# Altium integrated library NSC Switcher.IntLib: 2027 symbols (part 49 of 54)
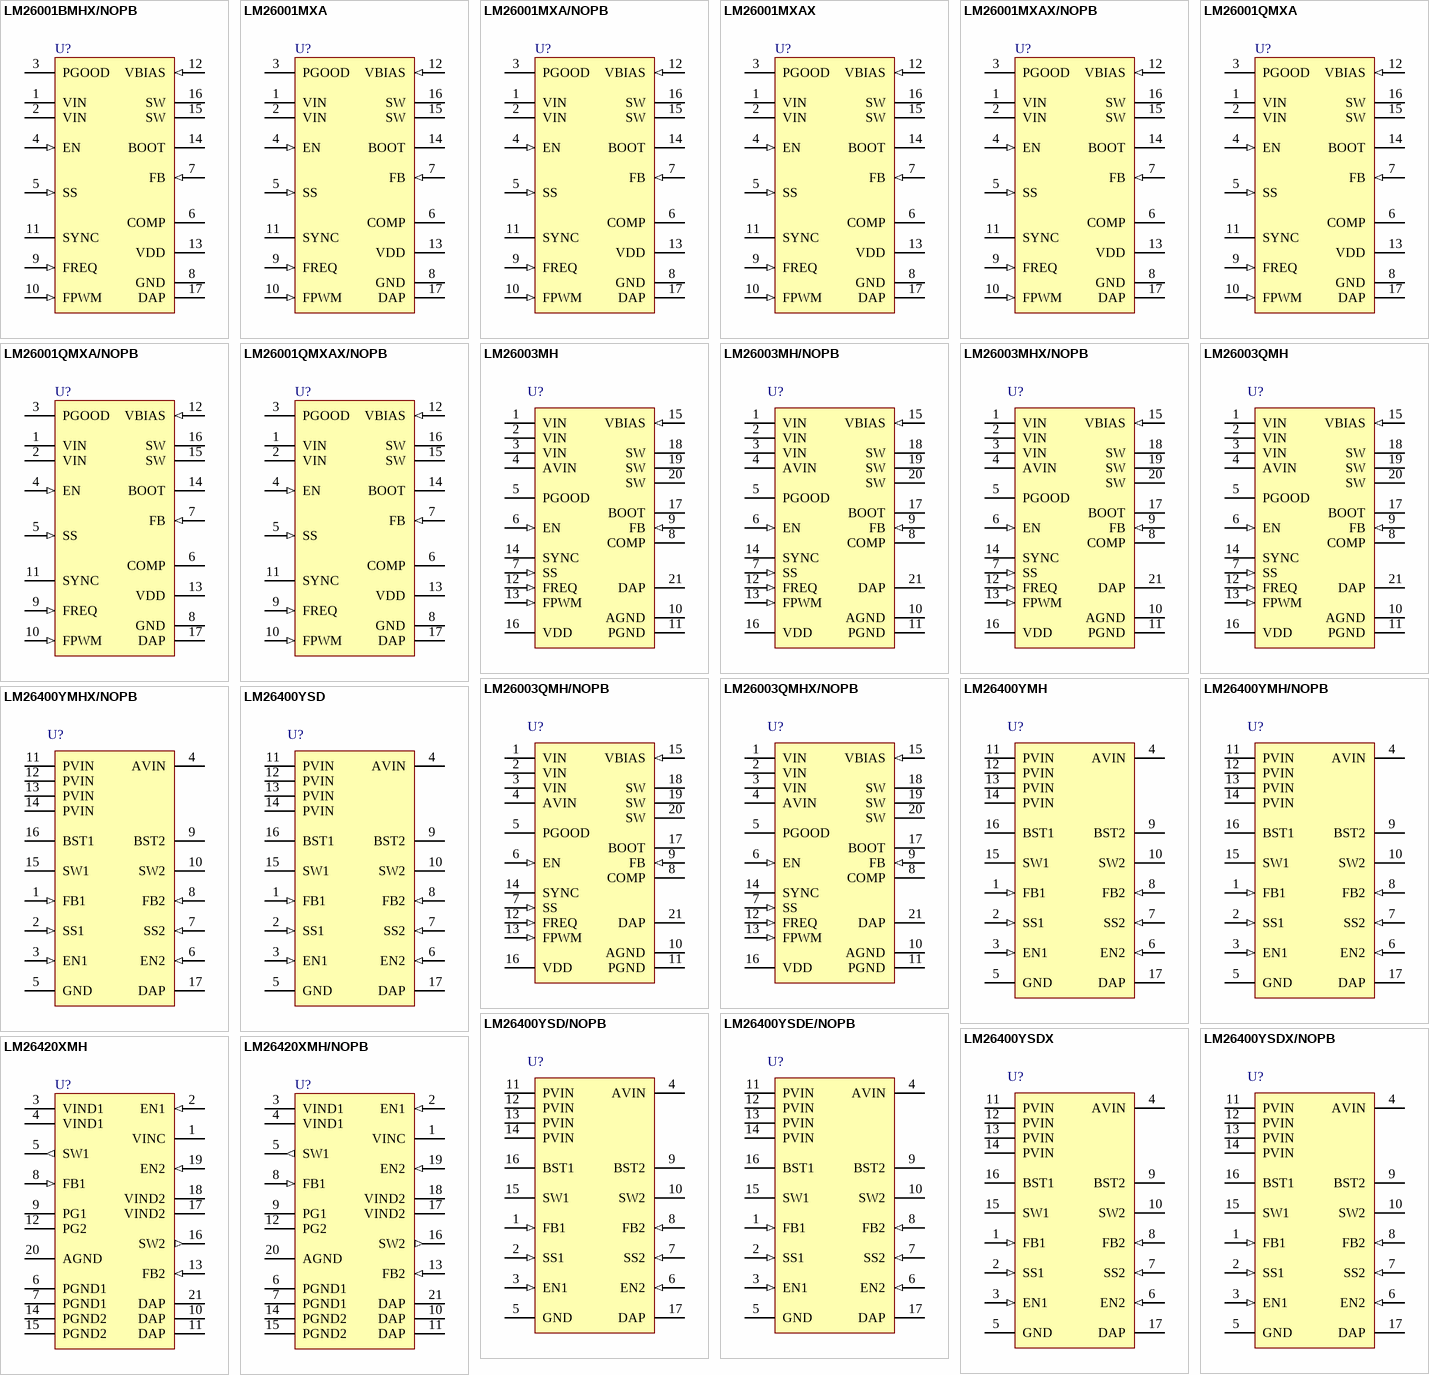
[diagram p111: symbols LM26001BMHX/NOPB to LM26420XMH/NOPB]

## LM26420XMH
designator U?
Dual 2.0A, High Frequency Synchronous Step-Down DC-DC Regulator, 2.2MHz, 20-pin TSSOP-EP; PartNumber: LM26420XMH; Manufacturer: National Semiconductor; PackageTopMarking: NSUZXYTT*LM26420*XMH; PowerWise: Y; CompType: Switcher; Published: 9-Oct-2009; DatasheetVersion: May-2009; PackageVersion: revC, Jul-2006; PackageReference: MXA20A; Publisher: Altium Limited; PackageDescription: Molded TSSOP, Jedec, 6.5 x 4.4 x 0.9mm Body, 20 Lead, 0.65mm Pitch, Exposed Pad; RoHS: Y; PinCount: 20; Code_JEDEC: MO-153-ACT; ComponentLink1Description: LM26420 Datasheet; ComponentLink1URL: http://www.national.com/ds/LM/LM26420.pdf; ComponentLink2Description: LM26420 Web Page; ComponentLink2URL: http://www.national.com/pf/LM/LM26420.html; ComponentLink3Description: MXA20A Package Page; ComponentLink3URL: http://www.national.com/packaging/folders/mxa20a.html
footprint MXA20A_N (TSOP, 20-Leads, Body 6.5x4.4mm, Pitch 0.65mm, Exposed Pad, IPC Medium Density)
footprint MXA20A_L (TSOP, 20-Leads, Body 6.5x4.4mm, Pitch 0.65mm, Exposed Pad, IPC High Density)
footprint MXA20A_M (TSOP, 20-Leads, Body 6.5x4.4mm, Pitch 0.65mm, Exposed Pad, IPC Low Density)
pins: 1 VINC (power), 2 EN1 (in), 3 VIND1 (power), 4 VIND1 (power), 5 SW1 (out), 6 PGND1 (power), 7 PGND1 (power), 8 FB1 (in), 9 PG1 (oc), 10 DAP (power), 11 DAP (power), 12 PG2 (oc), 13 FB2 (in), 14 PGND2 (power), 15 PGND2 (power), 16 SW2 (out), 17 VIND2 (power), 18 VIND2 (power), 19 EN2 (in), 20 AGND (power), 21 DAP (power)

## LM26420XMH/NOPB
designator U?
Dual 2.0A, High Frequency Synchronous Step-Down DC-DC Regulator, 20-pin TSSOP-EP, Pb-Free; PartNumber: LM26420XMH/NOPB; Manufacturer: National Semiconductor; PackageTopMarking: NSUZXYTT*LM26420*XMH; PowerWise: Y; CompType: Switcher; Published: 1-Mar-2010; DatasheetVersion: May-2009; PackageVersion: revC, Jul-2006; PackageReference: MXA20A; Publisher: Altium Limited; PackageDescription: Molded TSSOP, Jedec, 6.5 x 4.4 x 0.9mm Body, 20 Lead, 0.65mm Pitch, Exposed Pad; Supplier 1: Digi-Key; Supplier Part Number 1: LM26420XMH-ND; Supplier 2: Farnell; Supplier Part Number 2: 1735794; RoHS: Y; PinCount: 20; Code_JEDEC: MO-153-ACT; ComponentLink1Description: LM26420 Datasheet; ComponentLink1URL: http://www.national.com/ds/LM/LM26420.pdf; ComponentLink2Description: LM26420 Web Page; ComponentLink2URL: http://www.national.com/pf/LM/LM26420.html; ComponentLink3Description: MXA20A Package Page; ComponentLink3URL: http://www.national.com/packaging/folders/mxa20a.html
footprint MXA20A_N (TSOP, 20-Leads, Body 6.5x4.4mm, Pitch 0.65mm, Exposed Pad, IPC Medium Density)
footprint MXA20A_L (TSOP, 20-Leads, Body 6.5x4.4mm, Pitch 0.65mm, Exposed Pad, IPC High Density)
footprint MXA20A_M (TSOP, 20-Leads, Body 6.5x4.4mm, Pitch 0.65mm, Exposed Pad, IPC Low Density)
pins: 1 VINC (power), 2 EN1 (in), 3 VIND1 (power), 4 VIND1 (power), 5 SW1 (out), 6 PGND1 (power), 7 PGND1 (power), 8 FB1 (in), 9 PG1 (oc), 10 DAP (power), 11 DAP (power), 12 PG2 (oc), 13 FB2 (in), 14 PGND2 (power), 15 PGND2 (power), 16 SW2 (out), 17 VIND2 (power), 18 VIND2 (power), 19 EN2 (in), 20 AGND (power), 21 DAP (power)

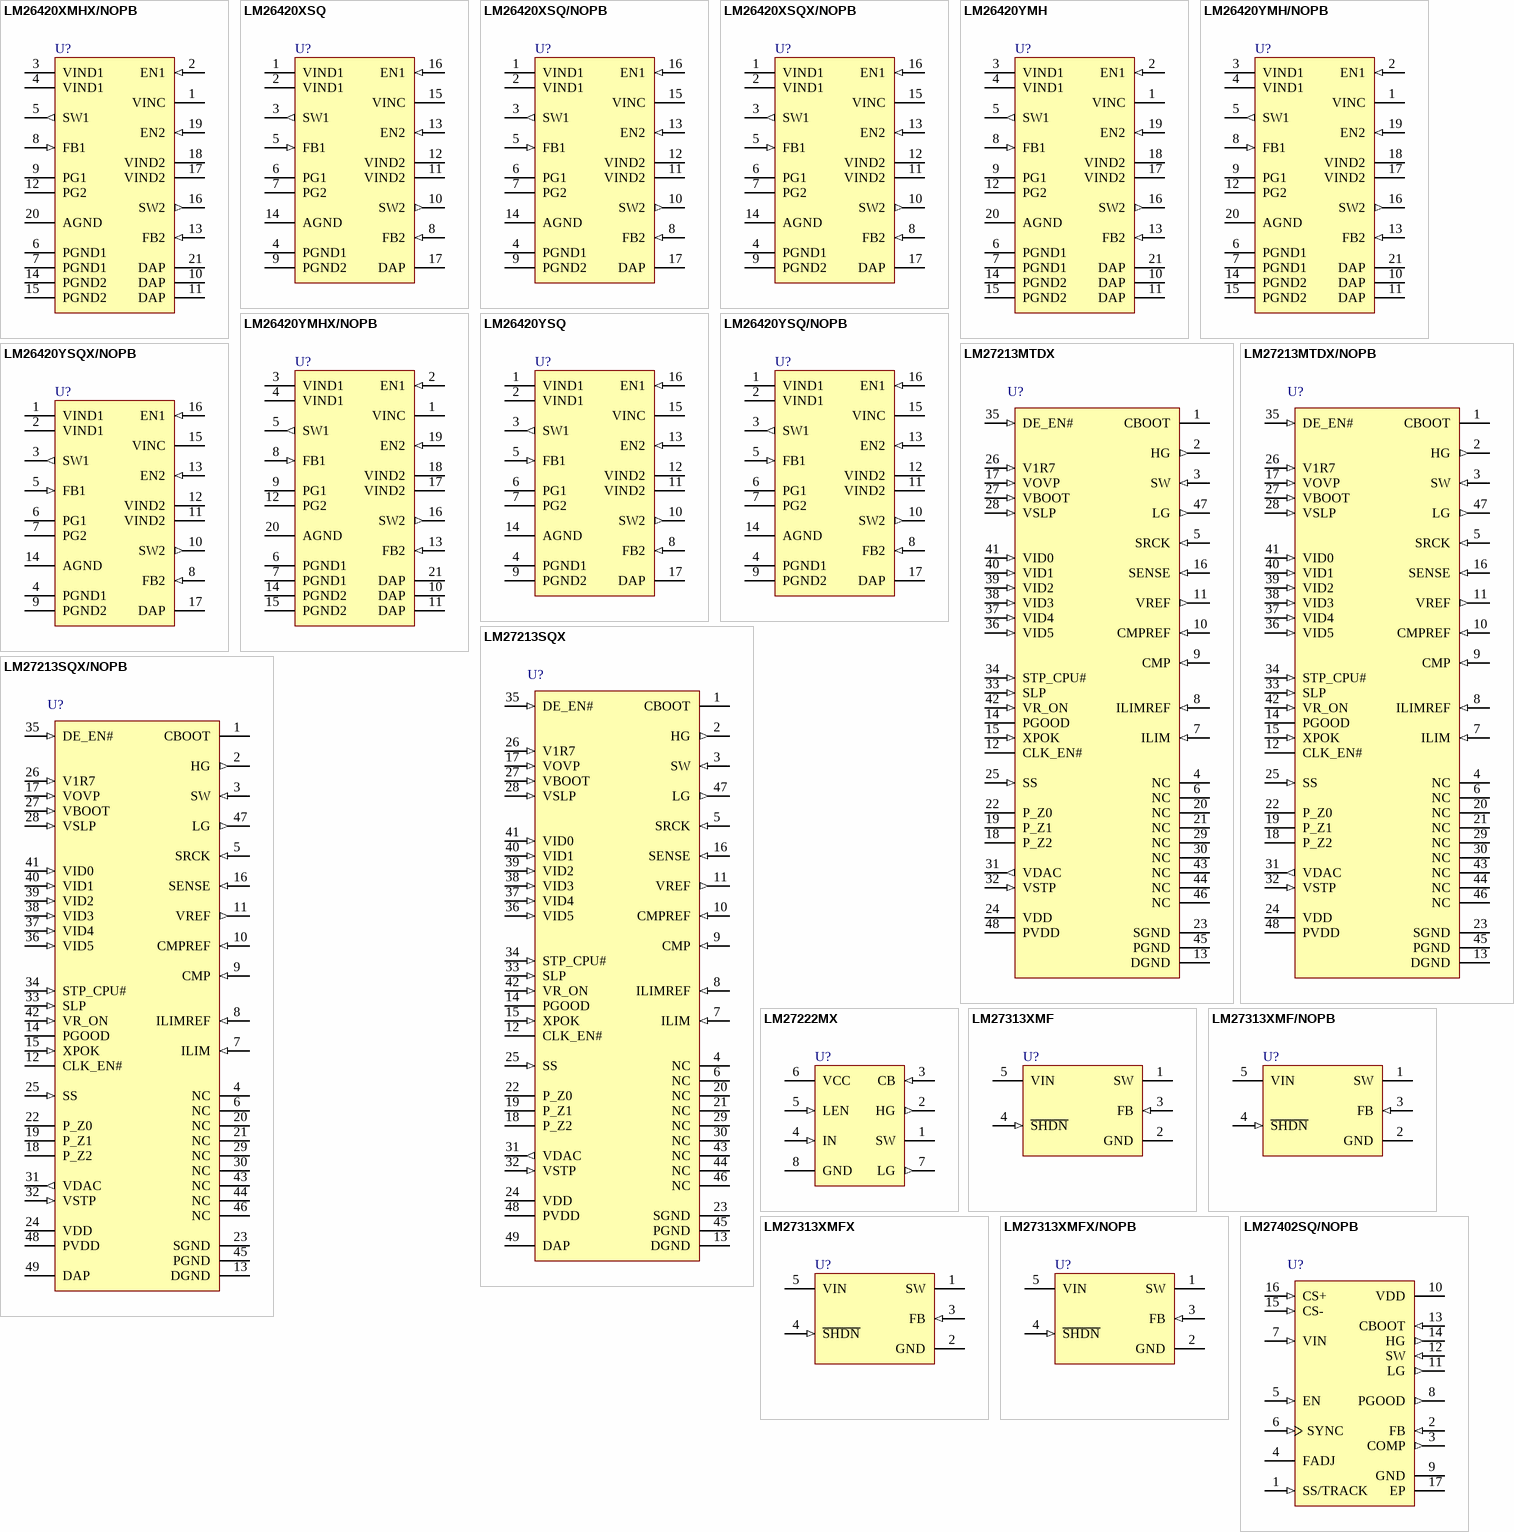
[diagram p55: symbols LM26420XMHX/NOPB to LM27402SQ/NOPB]

## LM26420XMHX/NOPB
designator U?
Dual 2.0A, High Frequency Synchronous Step-Down DC-DC Regulator, 20-pin TSSOP-EP, Pb-Free; PartNumber: LM26420XMHX/NOPB; Manufacturer: National Semiconductor; PackageTopMarking: NSUZXYTT*LM26420*XMH; PowerWise: Y; CompType: Switcher; Published: 1-Mar-2010; DatasheetVersion: May-2009; PackageVersion: revC, Jul-2006; PackageReference: MXA20A; Publisher: Altium Limited; PackageDescription: Molded TSSOP, Jedec, 6.5 x 4.4 x 0.9mm Body, 20 Lead, 0.65mm Pitch, Exposed Pad; Supplier 1: Digi-Key; Supplier Part Number 1: LM26420XMHX-ND; RoHS: Y; PinCount: 20; Code_JEDEC: MO-153-ACT; ComponentLink1Description: LM26420 Datasheet; ComponentLink1URL: http://www.national.com/ds/LM/LM26420.pdf; ComponentLink2Description: LM26420 Web Page; ComponentLink2URL: http://www.national.com/pf/LM/LM26420.html; ComponentLink3Description: MXA20A Package Page; ComponentLink3URL: http://www.national.com/packaging/folders/mxa20a.html
footprint MXA20A_N (TSOP, 20-Leads, Body 6.5x4.4mm, Pitch 0.65mm, Exposed Pad, IPC Medium Density)
footprint MXA20A_L (TSOP, 20-Leads, Body 6.5x4.4mm, Pitch 0.65mm, Exposed Pad, IPC High Density)
footprint MXA20A_M (TSOP, 20-Leads, Body 6.5x4.4mm, Pitch 0.65mm, Exposed Pad, IPC Low Density)
pins: 1 VINC (power), 2 EN1 (in), 3 VIND1 (power), 4 VIND1 (power), 5 SW1 (out), 6 PGND1 (power), 7 PGND1 (power), 8 FB1 (in), 9 PG1 (oc), 10 DAP (power), 11 DAP (power), 12 PG2 (oc), 13 FB2 (in), 14 PGND2 (power), 15 PGND2 (power), 16 SW2 (out), 17 VIND2 (power), 18 VIND2 (power), 19 EN2 (in), 20 AGND (power), 21 DAP (power)

## LM26420XSQ
designator U?
Dual 2.0A, High Frequency Synchronous Step-Down DC-DC Regulator, 2.2MHz, 16-pin LLP; PartNumber: LM26420XSQ; Manufacturer: National Semiconductor; PackageTopMarking: NS*UZXYTT*L26420X; PowerWise: Y; CompType: Switcher; Published: 9-Oct-2009; DatasheetVersion: May-2009; PackageVersion: revA, Dec-2005; PackageReference: SQB16A; Publisher: Altium Limited; PackageDescription: LLP, Plastic, Quad, 4 x 4 x 0.8mm, 16 Lead, 0.65mm Pitch, No Pullback; RoHS: Y; PinCount: 16; ComponentLink1Description: LM26420 Datasheet; ComponentLink1URL: http://www.national.com/ds/LM/LM26420.pdf; ComponentLink2Description: LM26420 Web Page; ComponentLink2URL: http://www.national.com/pf/LM/LM26420.html; ComponentLink3Description: SQB16A Package Page; ComponentLink3URL: http://www.national.com/packaging/folders/sqb16a.html
footprint SQB16A (QFN, 16-Leads, Body 4x4mm, Pitch 0.65mm, NSC Recommended)
pins: 1 VIND1 (power), 2 VIND1 (power), 3 SW1 (out), 4 PGND1 (power), 5 FB1 (in), 6 PG1 (oc), 7 PG2 (oc), 8 FB2 (in), 9 PGND2 (power), 10 SW2 (out), 11 VIND2 (power), 12 VIND2 (power), 13 EN2 (in), 14 AGND (power), 15 VINC (power), 16 EN1 (in), 17 DAP (power)

## LM26420XSQ/NOPB
designator U?
Dual 2.0A, High Frequency Synchronous Step-Down DC-DC Regulator, 16-pin LLP, Pb-Free; PartNumber: LM26420XSQ/NOPB; Manufacturer: National Semiconductor; PackageTopMarking: NS*UZXYTT*L26420X; PowerWise: Y; CompType: Switcher; Published: 1-Mar-2010; DatasheetVersion: May-2009; PackageVersion: revA, Dec-2005; PackageReference: SQB16A; Publisher: Altium Limited; PackageDescription: LLP, Plastic, Quad, 4 x 4 x 0.8mm, 16 Lead, 0.65mm Pitch, No Pullback; Supplier 1: Digi-Key; Supplier Part Number 1: LM26420XSQTR-ND; Supplier 2: Digi-Key; Supplier Part Number 2: LM26420XSQCT-ND; Supplier 3: Digi-Key; Supplier Part Number 3: LM26420XSQDKR-ND; RoHS: Y; PinCount: 16; ComponentLink1Description: LM26420 Datasheet; ComponentLink1URL: http://www.national.com/ds/LM/LM26420.pdf; ComponentLink2Description: LM26420 Web Page; ComponentLink2URL: http://www.national.com/pf/LM/LM26420.html; ComponentLink3Description: SQB16A Package Page; ComponentLink3URL: http://www.national.com/packaging/folders/sqb16a.html
footprint SQB16A (QFN, 16-Leads, Body 4x4mm, Pitch 0.65mm, NSC Recommended)
pins: 1 VIND1 (power), 2 VIND1 (power), 3 SW1 (out), 4 PGND1 (power), 5 FB1 (in), 6 PG1 (oc), 7 PG2 (oc), 8 FB2 (in), 9 PGND2 (power), 10 SW2 (out), 11 VIND2 (power), 12 VIND2 (power), 13 EN2 (in), 14 AGND (power), 15 VINC (power), 16 EN1 (in), 17 DAP (power)

## LM26420XSQX/NOPB
designator U?
Dual 2.0A, High Frequency Synchronous Step-Down DC-DC Regulator, 16-pin LLP, Pb-Free; PartNumber: LM26420XSQX/NOPB; Manufacturer: National Semiconductor; PackageTopMarking: NS*UZXYTT*L26420X; PowerWise: Y; CompType: Switcher; Published: 1-Mar-2010; DatasheetVersion: May-2009; PackageVersion: revA, Dec-2005; PackageReference: SQB16A; Publisher: Altium Limited; PackageDescription: LLP, Plastic, Quad, 4 x 4 x 0.8mm, 16 Lead, 0.65mm Pitch, No Pullback; Supplier 1: Digi-Key; Supplier Part Number 1: LM26420XSQX-ND; RoHS: Y; PinCount: 16; ComponentLink1Description: LM26420 Datasheet; ComponentLink1URL: http://www.national.com/ds/LM/LM26420.pdf; ComponentLink2Description: LM26420 Web Page; ComponentLink2URL: http://www.national.com/pf/LM/LM26420.html; ComponentLink3Description: SQB16A Package Page; ComponentLink3URL: http://www.national.com/packaging/folders/sqb16a.html
footprint SQB16A (QFN, 16-Leads, Body 4x4mm, Pitch 0.65mm, NSC Recommended)
pins: 1 VIND1 (power), 2 VIND1 (power), 3 SW1 (out), 4 PGND1 (power), 5 FB1 (in), 6 PG1 (oc), 7 PG2 (oc), 8 FB2 (in), 9 PGND2 (power), 10 SW2 (out), 11 VIND2 (power), 12 VIND2 (power), 13 EN2 (in), 14 AGND (power), 15 VINC (power), 16 EN1 (in), 17 DAP (power)

## LM26420YMH
designator U?
Dual 2.0A, High Frequency Synchronous Step-Down DC-DC Regulator, 0.55MHz, 20-pin TSSOP-EP; PartNumber: LM26420YMH; Manufacturer: National Semiconductor; PackageTopMarking: NSUZXYTT*LM26420*YMH; PowerWise: Y; CompType: Switcher; Published: 9-Oct-2009; DatasheetVersion: May-2009; PackageVersion: revC, Jul-2006; PackageReference: MXA20A; Publisher: Altium Limited; PackageDescription: Molded TSSOP, Jedec, 6.5 x 4.4 x 0.9mm Body, 20 Lead, 0.65mm Pitch, Exposed Pad; RoHS: Y; PinCount: 20; Code_JEDEC: MO-153-ACT; ComponentLink1Description: LM26420 Datasheet; ComponentLink1URL: http://www.national.com/ds/LM/LM26420.pdf; ComponentLink2Description: LM26420 Web Page; ComponentLink2URL: http://www.national.com/pf/LM/LM26420.html; ComponentLink3Description: MXA20A Package Page; ComponentLink3URL: http://www.national.com/packaging/folders/mxa20a.html
footprint MXA20A_N (TSOP, 20-Leads, Body 6.5x4.4mm, Pitch 0.65mm, Exposed Pad, IPC Medium Density)
footprint MXA20A_L (TSOP, 20-Leads, Body 6.5x4.4mm, Pitch 0.65mm, Exposed Pad, IPC High Density)
footprint MXA20A_M (TSOP, 20-Leads, Body 6.5x4.4mm, Pitch 0.65mm, Exposed Pad, IPC Low Density)
pins: 1 VINC (power), 2 EN1 (in), 3 VIND1 (power), 4 VIND1 (power), 5 SW1 (out), 6 PGND1 (power), 7 PGND1 (power), 8 FB1 (in), 9 PG1 (oc), 10 DAP (power), 11 DAP (power), 12 PG2 (oc), 13 FB2 (in), 14 PGND2 (power), 15 PGND2 (power), 16 SW2 (out), 17 VIND2 (power), 18 VIND2 (power), 19 EN2 (in), 20 AGND (power), 21 DAP (power)

## LM26420YMH/NOPB
designator U?
Dual 2.0A, High Frequency Synchronous Step-Down DC-DC Regulator, 20-pin TSSOP-EP, Pb-Free; PartNumber: LM26420YMH/NOPB; Manufacturer: National Semiconductor; PackageTopMarking: NSUZXYTT*LM26420*YMH; PowerWise: Y; CompType: Switcher; Published: 1-Mar-2010; DatasheetVersion: May-2009; PackageVersion: revC, Jul-2006; PackageReference: MXA20A; Publisher: Altium Limited; PackageDescription: Molded TSSOP, Jedec, 6.5 x 4.4 x 0.9mm Body, 20 Lead, 0.65mm Pitch, Exposed Pad; Supplier 1: Digi-Key; Supplier Part Number 1: LM26420YMH-ND; Supplier 2: Farnell; Supplier Part Number 2: 1735795; RoHS: Y; PinCount: 20; Code_JEDEC: MO-153-ACT; ComponentLink1Description: LM26420 Datasheet; ComponentLink1URL: http://www.national.com/ds/LM/LM26420.pdf; ComponentLink2Description: LM26420 Web Page; ComponentLink2URL: http://www.national.com/pf/LM/LM26420.html; ComponentLink3Description: MXA20A Package Page; ComponentLink3URL: http://www.national.com/packaging/folders/mxa20a.html
footprint MXA20A_N (TSOP, 20-Leads, Body 6.5x4.4mm, Pitch 0.65mm, Exposed Pad, IPC Medium Density)
footprint MXA20A_L (TSOP, 20-Leads, Body 6.5x4.4mm, Pitch 0.65mm, Exposed Pad, IPC High Density)
footprint MXA20A_M (TSOP, 20-Leads, Body 6.5x4.4mm, Pitch 0.65mm, Exposed Pad, IPC Low Density)
pins: 1 VINC (power), 2 EN1 (in), 3 VIND1 (power), 4 VIND1 (power), 5 SW1 (out), 6 PGND1 (power), 7 PGND1 (power), 8 FB1 (in), 9 PG1 (oc), 10 DAP (power), 11 DAP (power), 12 PG2 (oc), 13 FB2 (in), 14 PGND2 (power), 15 PGND2 (power), 16 SW2 (out), 17 VIND2 (power), 18 VIND2 (power), 19 EN2 (in), 20 AGND (power), 21 DAP (power)

## LM26420YMHX/NOPB
designator U?
Dual 2.0A, High Frequency Synchronous Step-Down DC-DC Regulator, 20-pin TSSOP-EP, Pb-Free; PartNumber: LM26420YMHX/NOPB; Manufacturer: National Semiconductor; PackageTopMarking: NSUZXYTT*LM26420*YMH; PowerWise: Y; CompType: Switcher; Published: 1-Mar-2010; DatasheetVersion: May-2009; PackageVersion: revC, Jul-2006; PackageReference: MXA20A; Publisher: Altium Limited; PackageDescription: Molded TSSOP, Jedec, 6.5 x 4.4 x 0.9mm Body, 20 Lead, 0.65mm Pitch, Exposed Pad; Supplier 1: Digi-Key; Supplier Part Number 1: LM26420YMHX-ND; RoHS: Y; PinCount: 20; Code_JEDEC: MO-153-ACT; ComponentLink1Description: LM26420 Datasheet; ComponentLink1URL: http://www.national.com/ds/LM/LM26420.pdf; ComponentLink2Description: LM26420 Web Page; ComponentLink2URL: http://www.national.com/pf/LM/LM26420.html; ComponentLink3Description: MXA20A Package Page; ComponentLink3URL: http://www.national.com/packaging/folders/mxa20a.html
footprint MXA20A_N (TSOP, 20-Leads, Body 6.5x4.4mm, Pitch 0.65mm, Exposed Pad, IPC Medium Density)
footprint MXA20A_L (TSOP, 20-Leads, Body 6.5x4.4mm, Pitch 0.65mm, Exposed Pad, IPC High Density)
footprint MXA20A_M (TSOP, 20-Leads, Body 6.5x4.4mm, Pitch 0.65mm, Exposed Pad, IPC Low Density)
pins: 1 VINC (power), 2 EN1 (in), 3 VIND1 (power), 4 VIND1 (power), 5 SW1 (out), 6 PGND1 (power), 7 PGND1 (power), 8 FB1 (in), 9 PG1 (oc), 10 DAP (power), 11 DAP (power), 12 PG2 (oc), 13 FB2 (in), 14 PGND2 (power), 15 PGND2 (power), 16 SW2 (out), 17 VIND2 (power), 18 VIND2 (power), 19 EN2 (in), 20 AGND (power), 21 DAP (power)

## LM26420YSQ
designator U?
Dual 2.0A, High Frequency Synchronous Step-Down DC-DC Regulator, 0.55MHz, 16-pin LLP; PartNumber: LM26420YSQ; Manufacturer: National Semiconductor; PackageTopMarking: NS*UZXYTT*L26420Y; PowerWise: Y; CompType: Switcher; Published: 9-Oct-2009; DatasheetVersion: May-2009; PackageVersion: revA, Dec-2005; PackageReference: SQB16A; Publisher: Altium Limited; PackageDescription: LLP, Plastic, Quad, 4 x 4 x 0.8mm, 16 Lead, 0.65mm Pitch, No Pullback; RoHS: Y; PinCount: 16; ComponentLink1Description: LM26420 Datasheet; ComponentLink1URL: http://www.national.com/ds/LM/LM26420.pdf; ComponentLink2Description: LM26420 Web Page; ComponentLink2URL: http://www.national.com/pf/LM/LM26420.html; ComponentLink3Description: SQB16A Package Page; ComponentLink3URL: http://www.national.com/packaging/folders/sqb16a.html
footprint SQB16A (QFN, 16-Leads, Body 4x4mm, Pitch 0.65mm, NSC Recommended)
pins: 1 VIND1 (power), 2 VIND1 (power), 3 SW1 (out), 4 PGND1 (power), 5 FB1 (in), 6 PG1 (oc), 7 PG2 (oc), 8 FB2 (in), 9 PGND2 (power), 10 SW2 (out), 11 VIND2 (power), 12 VIND2 (power), 13 EN2 (in), 14 AGND (power), 15 VINC (power), 16 EN1 (in), 17 DAP (power)

## LM26420YSQ/NOPB
designator U?
Dual 2.0A, High Frequency Synchronous Step-Down DC-DC Regulator, 16-pin LLP, Pb-Free; PartNumber: LM26420YSQ/NOPB; Manufacturer: National Semiconductor; PackageTopMarking: NS*UZXYTT*L26420Y; PowerWise: Y; CompType: Switcher; Published: 1-Mar-2010; DatasheetVersion: May-2009; PackageVersion: revA, Dec-2005; PackageReference: SQB16A; Publisher: Altium Limited; PackageDescription: LLP, Plastic, Quad, 4 x 4 x 0.8mm, 16 Lead, 0.65mm Pitch, No Pullback; Supplier 1: Digi-Key; Supplier Part Number 1: LM26420YSQTR-ND; Supplier 2: Digi-Key; Supplier Part Number 2: LM26420YSQCT-ND; Supplier 3: Digi-Key; Supplier Part Number 3: LM26420YSQDKR-ND; RoHS: Y; PinCount: 16; ComponentLink1Description: LM26420 Datasheet; ComponentLink1URL: http://www.national.com/ds/LM/LM26420.pdf; ComponentLink2Description: LM26420 Web Page; ComponentLink2URL: http://www.national.com/pf/LM/LM26420.html; ComponentLink3Description: SQB16A Package Page; ComponentLink3URL: http://www.national.com/packaging/folders/sqb16a.html
footprint SQB16A (QFN, 16-Leads, Body 4x4mm, Pitch 0.65mm, NSC Recommended)
pins: 1 VIND1 (power), 2 VIND1 (power), 3 SW1 (out), 4 PGND1 (power), 5 FB1 (in), 6 PG1 (oc), 7 PG2 (oc), 8 FB2 (in), 9 PGND2 (power), 10 SW2 (out), 11 VIND2 (power), 12 VIND2 (power), 13 EN2 (in), 14 AGND (power), 15 VINC (power), 16 EN1 (in), 17 DAP (power)

## LM26420YSQX/NOPB
designator U?
Dual 2.0A, High Frequency Synchronous Step-Down DC-DC Regulator, 16-pin LLP, Pb-Free; PartNumber: LM26420YSQX/NOPB; Manufacturer: National Semiconductor; PackageTopMarking: NS*UZXYTT*L26420Y; PowerWise: Y; CompType: Switcher; Published: 1-Mar-2010; DatasheetVersion: May-2009; PackageVersion: revA, Dec-2005; PackageReference: SQB16A; Publisher: Altium Limited; PackageDescription: LLP, Plastic, Quad, 4 x 4 x 0.8mm, 16 Lead, 0.65mm Pitch, No Pullback; Supplier 1: Digi-Key; Supplier Part Number 1: LM26420YSQX-ND; RoHS: Y; PinCount: 16; ComponentLink1Description: LM26420 Datasheet; ComponentLink1URL: http://www.national.com/ds/LM/LM26420.pdf; ComponentLink2Description: LM26420 Web Page; ComponentLink2URL: http://www.national.com/pf/LM/LM26420.html; ComponentLink3Description: SQB16A Package Page; ComponentLink3URL: http://www.national.com/packaging/folders/sqb16a.html
footprint SQB16A (QFN, 16-Leads, Body 4x4mm, Pitch 0.65mm, NSC Recommended)
pins: 1 VIND1 (power), 2 VIND1 (power), 3 SW1 (out), 4 PGND1 (power), 5 FB1 (in), 6 PG1 (oc), 7 PG2 (oc), 8 FB2 (in), 9 PGND2 (power), 10 SW2 (out), 11 VIND2 (power), 12 VIND2 (power), 13 EN2 (in), 14 AGND (power), 15 VINC (power), 16 EN1 (in), 17 DAP (power)

## LM27213MTDX
designator U?
Single Phase Hysteretic Buck Controller, 48-pin TSSOP; PartNumber: LM27213MTDX; Manufacturer: National Semiconductor; PackageTopMarking: NSUZXYTTE#*27213MTD; PowerWise: N; CompType: Switcher; Published: 1-Mar-2010; DatasheetVersion: Feb-2006; PackageVersion: revE, Apr-2003; PackageReference: MTD48; Publisher: Altium Limited; PackageDescription: Molded TSSOP, Jedec, 12.5 x 6.1 x 0.9mm Body, 48 Lead, 0.50mm Pitch; RoHS: N; PinCount: 48; Code_JEDEC: MO-153-ED; ComponentLink1Description: LM27213 Datasheet; ComponentLink1URL: http://www.national.com/ds/LM/LM27213.pdf; ComponentLink2Description: LM27213 Web Page; ComponentLink2URL: http://www.national.com/pf/LM/LM27213.html; ComponentLink3Description: MTD48 Package Page; ComponentLink3URL: http://www.national.com/packaging/folders/mtd48.html
footprint MTD48_N (TSSOP, 48-Leads, Body 12.5x6.1mm, Pitch 0.5mm, IPC Medium Density)
footprint MTD48_L (TSSOP, 48-Leads, Body 12.5x6.1mm, Pitch 0.5mm, IPC High Density)
footprint MTD48_M (TSSOP, 48-Leads, Body 12.5x6.1mm, Pitch 0.5mm, IPC Low Density)
pins: 1 CBOOT, 2 HG (out), 3 SW (in), 4 NC, 5 SRCK (in), 6 NC, 7 ILIM (in), 8 ILIMREF (in), 9 CMP (in), 10 CMPREF (in), 11 VREF (out), 12 CLK_EN# (oc), 13 DGND (power), 14 PGOOD (oc), 15 XPOK (in), 16 SENSE (in), 17 VOVP (in), 18 P_Z2, 19 P_Z1, 20 NC, 21 NC, 22 P_Z0, 23 SGND (power), 24 VDD (power), 25 SS (in), 26 V1R7 (in), 27 VBOOT (in), 28 VSLP (in), 29 NC, 30 NC, 31 VDAC (out), 32 VSTP (in), 33 SLP (in), 34 STP_CPU# (in), 35 DE_EN# (in), 36 VID5 (in), 37 VID4 (in), 38 VID3 (in), 39 VID2 (in), 40 VID1 (in), 41 VID0 (in), 42 VR_ON (in), 43 NC, 44 NC, 45 PGND (power), 46 NC, 47 LG (out), 48 PVDD (power)

## LM27213MTDX/NOPB
designator U?
Single Phase Hysteretic Buck Controller, 48-pin TSSOP, Pb-Free; PartNumber: LM27213MTDX/NOPB; Manufacturer: National Semiconductor; PackageTopMarking: NSUZXYTTE#*27213MTD; PowerWise: N; CompType: Switcher; Published: 1-Mar-2010; DatasheetVersion: Feb-2006; PackageVersion: revE, Apr-2003; PackageReference: MTD48; Publisher: Altium Limited; PackageDescription: Molded TSSOP, Jedec, 12.5 x 6.1 x 0.9mm Body, 48 Lead, 0.50mm Pitch; Supplier 1: Digi-Key; Supplier Part Number 1: LM27213MTDX-ND; RoHS: Y; PinCount: 48; Code_JEDEC: MO-153-ED; ComponentLink1Description: LM27213 Datasheet; ComponentLink1URL: http://www.national.com/ds/LM/LM27213.pdf; ComponentLink2Description: LM27213 Web Page; ComponentLink2URL: http://www.national.com/pf/LM/LM27213.html; ComponentLink3Description: MTD48 Package Page; ComponentLink3URL: http://www.national.com/packaging/folders/mtd48.html
footprint MTD48_N (TSSOP, 48-Leads, Body 12.5x6.1mm, Pitch 0.5mm, IPC Medium Density)
footprint MTD48_L (TSSOP, 48-Leads, Body 12.5x6.1mm, Pitch 0.5mm, IPC High Density)
footprint MTD48_M (TSSOP, 48-Leads, Body 12.5x6.1mm, Pitch 0.5mm, IPC Low Density)
pins: 1 CBOOT, 2 HG (out), 3 SW (in), 4 NC, 5 SRCK (in), 6 NC, 7 ILIM (in), 8 ILIMREF (in), 9 CMP (in), 10 CMPREF (in), 11 VREF (out), 12 CLK_EN# (oc), 13 DGND (power), 14 PGOOD (oc), 15 XPOK (in), 16 SENSE (in), 17 VOVP (in), 18 P_Z2, 19 P_Z1, 20 NC, 21 NC, 22 P_Z0, 23 SGND (power), 24 VDD (power), 25 SS (in), 26 V1R7 (in), 27 VBOOT (in), 28 VSLP (in), 29 NC, 30 NC, 31 VDAC (out), 32 VSTP (in), 33 SLP (in), 34 STP_CPU# (in), 35 DE_EN# (in), 36 VID5 (in), 37 VID4 (in), 38 VID3 (in), 39 VID2 (in), 40 VID1 (in), 41 VID0 (in), 42 VR_ON (in), 43 NC, 44 NC, 45 PGND (power), 46 NC, 47 LG (out), 48 PVDD (power)

## LM27213SQX
designator U?
Single Phase Hysteretic Buck Controller, 48-pin LLP; PartNumber: LM27213SQX; Manufacturer: National Semiconductor; PackageTopMarking: NS*UZXYTTE#*27213SQ; PowerWise: N; CompType: Switcher; Published: 1-Mar-2010; DatasheetVersion: Feb-2006; PackageVersion: revB, May-2009; PackageReference: SQA48A; Publisher: Altium Limited; PackageDescription: LLP, Plastic, Quad, 7 x 7 x 0.8mm Body, 48 Lead, 0.5mm Pitch, No Pullback; RoHS: N; PinCount: 48; Code_JEDEC: MO-220-WKKD-2; ComponentLink1Description: LM27213 Datasheet; ComponentLink1URL: http://www.national.com/ds/LM/LM27213.pdf; ComponentLink2Description: LM27213 Web Page; ComponentLink2URL: http://www.national.com/pf/LM/LM27213.html; ComponentLink3Description: SQA48A Package Page; ComponentLink3URL: http://www.national.com/packaging/folders/sqa48a.html
footprint SQA48A (QFN, 48-Leads, Body 7x7mm, Pitch 0.5mm, NSC Recommended)
pins: 1 CBOOT, 2 HG (out), 3 SW (in), 4 NC, 5 SRCK (in), 6 NC, 7 ILIM (in), 8 ILIMREF (in), 9 CMP (in), 10 CMPREF (in), 11 VREF (out), 12 CLK_EN# (oc), 13 DGND (power), 14 PGOOD (oc), 15 XPOK (in), 16 SENSE (in), 17 VOVP (in), 18 P_Z2, 19 P_Z1, 20 NC, 21 NC, 22 P_Z0, 23 SGND (power), 24 VDD (power), 25 SS (in), 26 V1R7 (in), 27 VBOOT (in), 28 VSLP (in), 29 NC, 30 NC, 31 VDAC (out), 32 VSTP (in), 33 SLP (in), 34 STP_CPU# (in), 35 DE_EN# (in), 36 VID5 (in), 37 VID4 (in), 38 VID3 (in), 39 VID2 (in), 40 VID1 (in), 41 VID0 (in), 42 VR_ON (in), 43 NC, 44 NC, 45 PGND (power), 46 NC, 47 LG (out), 48 PVDD (power), 49 DAP (power)

## LM27213SQX/NOPB
designator U?
Single Phase Hysteretic Buck Controller, 48-pin LLP, Pb-Free; PartNumber: LM27213SQX/NOPB; Manufacturer: National Semiconductor; PackageTopMarking: NS*UZXYTTE#*27213SQ; PowerWise: N; CompType: Switcher; Published: 1-Mar-2010; DatasheetVersion: Feb-2006; PackageVersion: revB, May-2009; PackageReference: SQA48A; Publisher: Altium Limited; PackageDescription: LLP, Plastic, Quad, 7 x 7 x 0.8mm Body, 48 Lead, 0.5mm Pitch, No Pullback; Supplier 1: Digi-Key; Supplier Part Number 1: LM27213SQX-ND; RoHS: Y; PinCount: 48; Code_JEDEC: MO-220-WKKD-2; ComponentLink1Description: LM27213 Datasheet; ComponentLink1URL: http://www.national.com/ds/LM/LM27213.pdf; ComponentLink2Description: LM27213 Web Page; ComponentLink2URL: http://www.national.com/pf/LM/LM27213.html; ComponentLink3Description: SQA48A Package Page; ComponentLink3URL: http://www.national.com/packaging/folders/sqa48a.html
footprint SQA48A (QFN, 48-Leads, Body 7x7mm, Pitch 0.5mm, NSC Recommended)
pins: 1 CBOOT, 2 HG (out), 3 SW (in), 4 NC, 5 SRCK (in), 6 NC, 7 ILIM (in), 8 ILIMREF (in), 9 CMP (in), 10 CMPREF (in), 11 VREF (out), 12 CLK_EN# (oc), 13 DGND (power), 14 PGOOD (oc), 15 XPOK (in), 16 SENSE (in), 17 VOVP (in), 18 P_Z2, 19 P_Z1, 20 NC, 21 NC, 22 P_Z0, 23 SGND (power), 24 VDD (power), 25 SS (in), 26 V1R7 (in), 27 VBOOT (in), 28 VSLP (in), 29 NC, 30 NC, 31 VDAC (out), 32 VSTP (in), 33 SLP (in), 34 STP_CPU# (in), 35 DE_EN# (in), 36 VID5 (in), 37 VID4 (in), 38 VID3 (in), 39 VID2 (in), 40 VID1 (in), 41 VID0 (in), 42 VR_ON (in), 43 NC, 44 NC, 45 PGND (power), 46 NC, 47 LG (out), 48 PVDD (power), 49 DAP (power)

## LM27222MX
designator U?
High-Speed 4.5A Synchronous MOSFET Driver, 8-pin Narrow SOIC; PartNumber: LM27222MX; Manufacturer: National Semiconductor; PackageTopMarking: NSZXTT*27222*M; PowerWise: N; CompType: Switcher; Published: 1-Mar-2010; DatasheetVersion: Mar-2006; PackageVersion: revM, May-2009; PackageReference: M08A; Publisher: Altium Limited; PackageDescription: SOIC Narrow, 4.9 x 3.9 x 1.45mm, 8 Lead, 1.27mm Pitch; RoHS: N; PinCount: 8; Code_JEDEC: MS-012-AA; Code_IPC: SOIC127P600-8; ComponentLink1Description: LM27222 Datasheet; ComponentLink1URL: http://www.national.com/ds/LM/LM27222.pdf; ComponentLink2Description: LM27222 Web Page; ComponentLink2URL: http://www.national.com/pf/LM/LM27222.html; ComponentLink3Description: M08A Package Page; ComponentLink3URL: http://www.national.com/packaging/folders/m08a.html
footprint M08A_N (SOIC, 8-Leads, Body 4.9x3.9mm, Pitch 1.27mm, IPC Medium Density)
footprint M08A_L (SOIC, 8-Leads, Body 4.9x3.9mm, Pitch 1.27mm, IPC High Density)
footprint M08A_M (SOIC, 8-Leads, Body 4.9x3.9mm, Pitch 1.27mm, IPC Low Density)
pins: 1 SW (power), 2 HG (out), 3 CB (in), 4 IN (in), 5 LEN (in), 6 VCC (power), 7 LG (out), 8 GND (power)

## LM27313XMF
designator U?
1.6 MHz Boost Converter With 30V Internal FET Switch, 5-pin SOT-23; PartNumber: LM27313XMF; Manufacturer: National Semiconductor; PackageTopMarking: SRPB*XTT; PowerWise: N; CompType: Switcher; Published: 4-Dec-2008; DatasheetVersion: Jul-2007; PackageVersion: revD, Aug-2008; PackageReference: MF05A; Publisher: Altium Limited; PackageDescription: Molded SOT-23, .115 x .063 x .040 in Body, 5 Lead, .0375 in Pitch; RoHS: N; PinCount: 5; ComponentLink1Description: LM27313 Datasheet; ComponentLink1URL: http://www.national.com/ds/LM/LM27313.pdf; ComponentLink2Description: LM27313 Web Page; ComponentLink2URL: http://www.national.com/pf/LM/LM27313.html; ComponentLink3Description: MF05A Package Page; ComponentLink3URL: http://www.national.com/packaging/folders/mf05a.html
footprint MF05A_N (SOT23, 5-Leads, Body 2.9x1.6mm, Pitch 0.95mm, Lead Span 2.8mm, IPC Medium Density)
footprint MF05A_L (SOT23, 5-Leads, Body 2.9x1.6mm, Pitch 0.95mm, Lead Span 2.8mm, IPC High Density)
footprint MF05A_M (SOT23, 5-Leads, Body 2.9x1.6mm, Pitch 0.95mm, Lead Span 2.8mm, IPC Low Density)
pins: 1 SW (power), 2 GND (power), 3 FB (in), 4 ~{SHDN} (in), 5 VIN (power)

## LM27313XMF/NOPB
designator U?
1.6 MHz Boost Converter With 30V Internal FET Switch in 5-pin SOT-23, Pb-Free; PartNumber: LM27313XMF/NOPB; Manufacturer: National Semiconductor; PackageTopMarking: SRPB*XTT; PowerWise: N; CompType: Switcher; Published: 1-Mar-2010; DatasheetVersion: Jul-2007; PackageVersion: revD, Aug-2008; PackageReference: MF05A; Publisher: Altium Limited; PackageDescription: Molded SOT-23, .115 x .063 x .040 in Body, 5 Lead, .0375 in Pitch; Supplier 1: Digi-Key; Supplier Part Number 1: LM27313XMFTR-ND; Supplier 2: Digi-Key; Supplier Part Number 2: LM27313XMFCT-ND; Supplier 3: Digi-Key; Supplier Part Number 3: LM27313XMFDKR-ND; Supplier 4: Farnell; Supplier Part Number 4: 1564771; RoHS: Y; PinCount: 5; ComponentLink1Description: LM27313 Datasheet; ComponentLink1URL: http://www.national.com/ds/LM/LM27313.pdf; ComponentLink2Description: LM27313 Web Page; ComponentLink2URL: http://www.national.com/pf/LM/LM27313.html; ComponentLink3Description: MF05A Package Page; ComponentLink3URL: http://www.national.com/packaging/folders/mf05a.html
footprint MF05A_N (SOT23, 5-Leads, Body 2.9x1.6mm, Pitch 0.95mm, Lead Span 2.8mm, IPC Medium Density)
footprint MF05A_L (SOT23, 5-Leads, Body 2.9x1.6mm, Pitch 0.95mm, Lead Span 2.8mm, IPC High Density)
footprint MF05A_M (SOT23, 5-Leads, Body 2.9x1.6mm, Pitch 0.95mm, Lead Span 2.8mm, IPC Low Density)
pins: 1 SW (power), 2 GND (power), 3 FB (in), 4 ~{SHDN} (in), 5 VIN (power)

## LM27313XMFX
designator U?
1.6 MHz Boost Converter With 30V Internal FET Switch in 5-pin SOT-23; PartNumber: LM27313XMFX; Manufacturer: National Semiconductor; PackageTopMarking: SRPB*XTT; PowerWise: N; CompType: Switcher; Published: 1-Mar-2010; DatasheetVersion: Jul-2007; PackageVersion: revD, Aug-2008; PackageReference: MF05A; Publisher: Altium Limited; PackageDescription: Molded SOT-23, .115 x .063 x .040 in Body, 5 Lead, .0375 in Pitch; RoHS: N; PinCount: 5; ComponentLink1Description: LM27313 Datasheet; ComponentLink1URL: http://www.national.com/ds/LM/LM27313.pdf; ComponentLink2Description: LM27313 Web Page; ComponentLink2URL: http://www.national.com/pf/LM/LM27313.html; ComponentLink3Description: MF05A Package Page; ComponentLink3URL: http://www.national.com/packaging/folders/mf05a.html
footprint MF05A_N (SOT23, 5-Leads, Body 2.9x1.6mm, Pitch 0.95mm, Lead Span 2.8mm, IPC Medium Density)
footprint MF05A_L (SOT23, 5-Leads, Body 2.9x1.6mm, Pitch 0.95mm, Lead Span 2.8mm, IPC High Density)
footprint MF05A_M (SOT23, 5-Leads, Body 2.9x1.6mm, Pitch 0.95mm, Lead Span 2.8mm, IPC Low Density)
pins: 1 SW (power), 2 GND (power), 3 FB (in), 4 ~{SHDN} (in), 5 VIN (power)

## LM27313XMFX/NOPB
designator U?
1.6 MHz Boost Converter With 30V Internal FET Switch in 5-pin SOT-23, Pb-Free; PartNumber: LM27313XMFX/NOPB; Manufacturer: National Semiconductor; PackageTopMarking: SRPB*XTT; PowerWise: N; CompType: Switcher; Published: 1-Mar-2010; DatasheetVersion: Jul-2007; PackageVersion: revD, Aug-2008; PackageReference: MF05A; Publisher: Altium Limited; PackageDescription: Molded SOT-23, .115 x .063 x .040 in Body, 5 Lead, .0375 in Pitch; Supplier 1: Digi-Key; Supplier Part Number 1: LM27313XMFX-ND; RoHS: Y; PinCount: 5; ComponentLink1Description: LM27313 Datasheet; ComponentLink1URL: http://www.national.com/ds/LM/LM27313.pdf; ComponentLink2Description: LM27313 Web Page; ComponentLink2URL: http://www.national.com/pf/LM/LM27313.html; ComponentLink3Description: MF05A Package Page; ComponentLink3URL: http://www.national.com/packaging/folders/mf05a.html
footprint MF05A_N (SOT23, 5-Leads, Body 2.9x1.6mm, Pitch 0.95mm, Lead Span 2.8mm, IPC Medium Density)
footprint MF05A_L (SOT23, 5-Leads, Body 2.9x1.6mm, Pitch 0.95mm, Lead Span 2.8mm, IPC High Density)
footprint MF05A_M (SOT23, 5-Leads, Body 2.9x1.6mm, Pitch 0.95mm, Lead Span 2.8mm, IPC Low Density)
pins: 1 SW (power), 2 GND (power), 3 FB (in), 4 ~{SHDN} (in), 5 VIN (power)

## LM27402SQ/NOPB
designator U?
High Performance Synchronous Buck Controller with DCR Current Sensing, 16 pin LLP; PartNumber: LM27402SQ/NOPB; Manufacturer: National Semiconductor; PackageTopMarking: NS*UZXYTT*27402S; PowerWise: Y; CompType: Switcher; Published: 16-Nov-2010; DatasheetVersion: Sep-2010; PackageVersion: revA, Dec-2005; PackageReference: SQB16A; Publisher: Altium Limited; PackageDescription: LLP, Plastic, Quad, 4 x 4 x 0.8mm, 16 Lead, 0.65mm Pitch, No Pullback; Supplier 1: Digi-Key; Supplier Part Number 1: LM27402SQ/NOPBTR-ND; Supplier 2: Digi-Key; Supplier Part Number 2: LM27402SQ/NOPBCT-ND; Supplier 3: Digi-Key; Supplier Part Number 3: LM27402SQ/NOPBDKR-ND; Supplier 4: Farnell; Supplier Part Number 4: 1836671; RoHS: Y; PinCount: 16; ComponentLink1Description: LM27402 Datasheet; ComponentLink1URL: http://www.national.com/ds/LM/LM27402.pdf; ComponentLink2Description: LM27402 Web Page; ComponentLink2URL: http://www.national.com/pf/LM/LM27402.html; ComponentLink3Description: SQB16A Package Page; ComponentLink3URL: http://www.national.com/packaging/folders/sqb16a.html
footprint SQB16A (QFN, 16-Leads, Body 4x4mm, Pitch 0.65mm, NSC Recommended)
pins: 1 SS/TRACK (in), 2 FB (in), 3 COMP (out), 4 FADJ, 5 EN (in), 6 SYNC (in), 7 VIN (in), 8 PGOOD (out), 9 GND (power), 10 VDD (power), 11 LG (out), 12 SW (in), 13 CBOOT (in), 14 HG (out), 15 CS- (in), 16 CS+ (in), 17 EP (power)

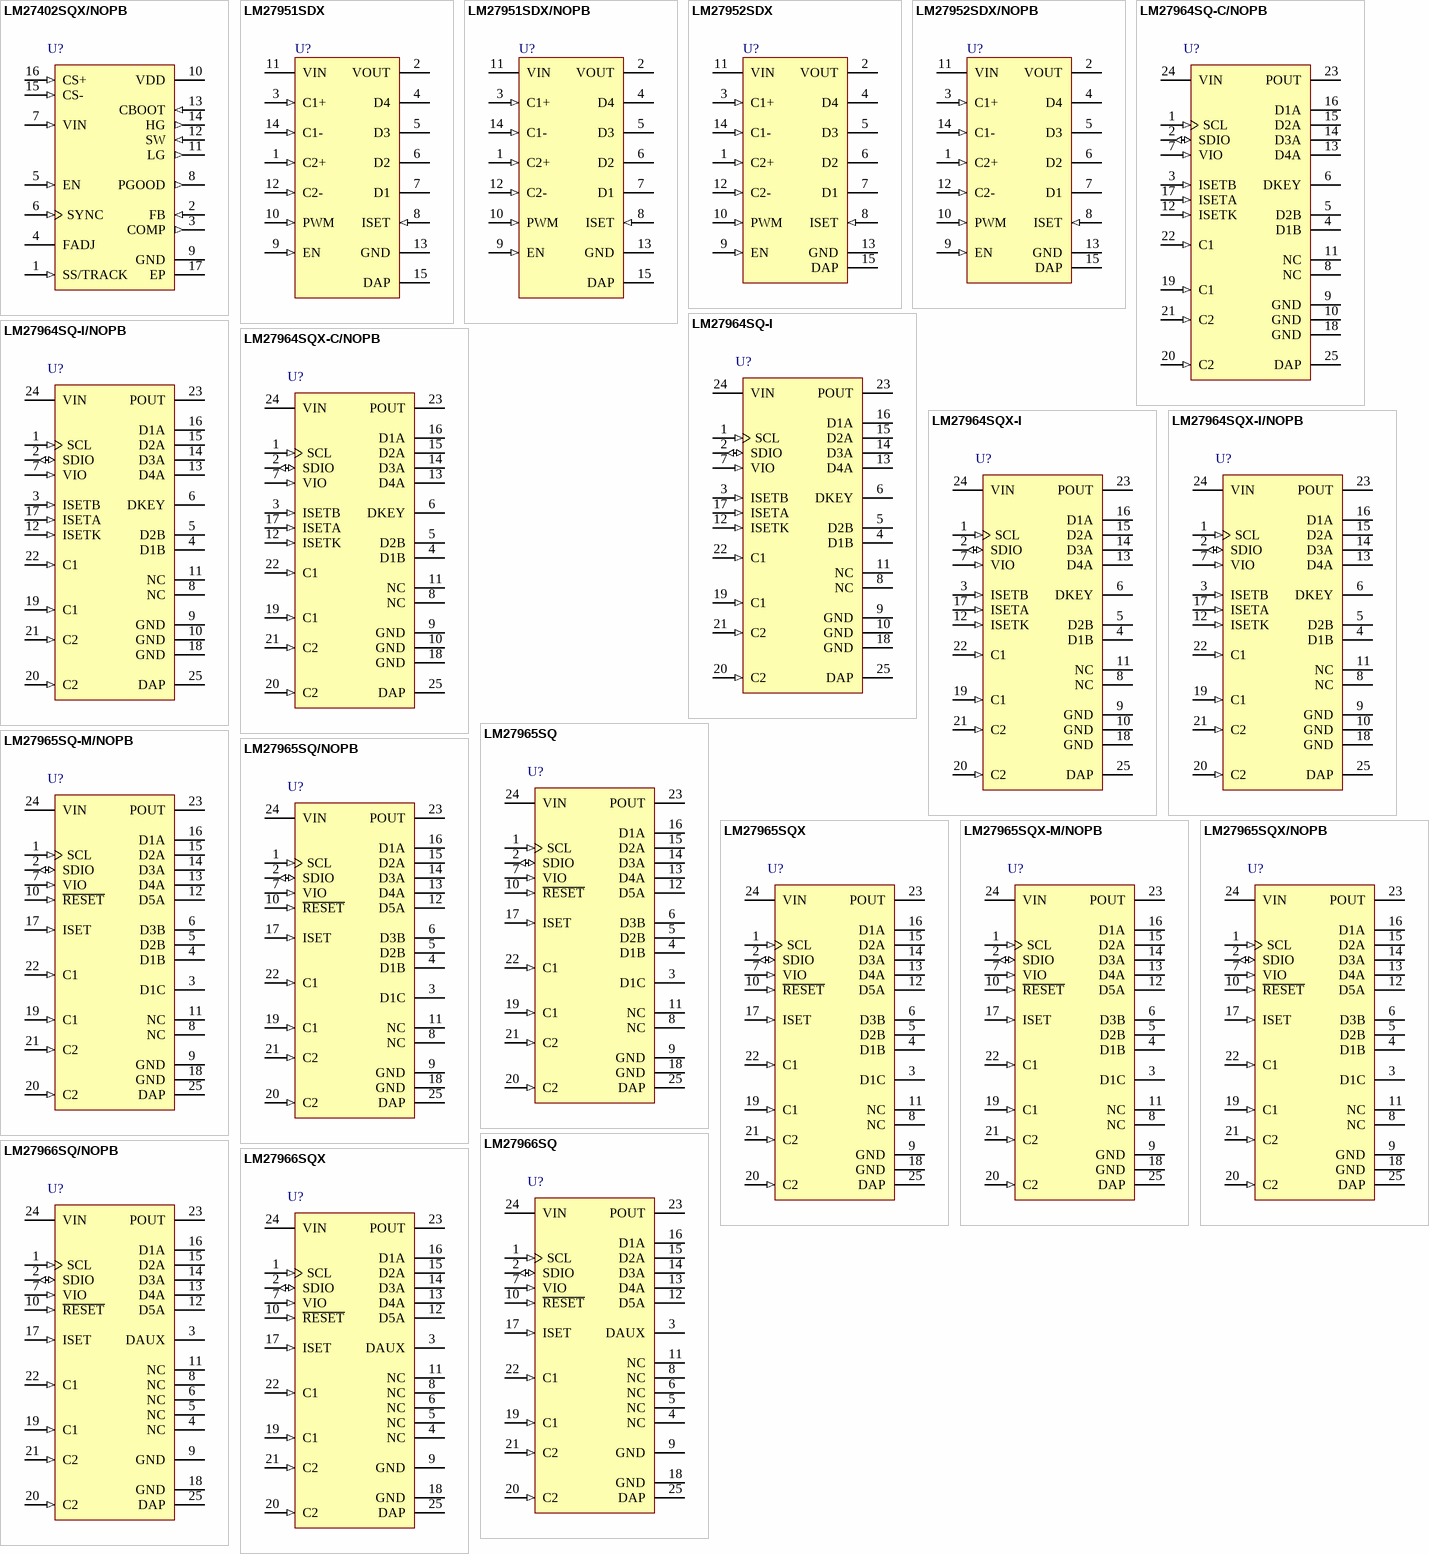
[diagram p56: symbols LM27402SQX/NOPB to LM27966SQX]

## LM27402SQX/NOPB
designator U?
High Performance Synchronous Buck Controller with DCR Current Sensing, 16 pin LLP; PartNumber: LM27402SQX/NOPB; Manufacturer: National Semiconductor; PackageTopMarking: NS*UZXYTT*27402S; PowerWise: Y; CompType: Switcher; Published: 16-Nov-2010; DatasheetVersion: Sep-2010; PackageVersion: revA, Dec-2005; PackageReference: SQB16A; Publisher: Altium Limited; PackageDescription: LLP, Plastic, Quad, 4 x 4 x 0.8mm, 16 Lead, 0.65mm Pitch, No Pullback; Supplier 1: Digi-Key; Supplier Part Number 1: LM27402SQX/NOPB-ND; RoHS: Y; PinCount: 16; ComponentLink1Description: LM27402 Datasheet; ComponentLink1URL: http://www.national.com/ds/LM/LM27402.pdf; ComponentLink2Description: LM27402 Web Page; ComponentLink2URL: http://www.national.com/pf/LM/LM27402.html; ComponentLink3Description: SQB16A Package Page; ComponentLink3URL: http://www.national.com/packaging/folders/sqb16a.html
footprint SQB16A (QFN, 16-Leads, Body 4x4mm, Pitch 0.65mm, NSC Recommended)
pins: 1 SS/TRACK (in), 2 FB (in), 3 COMP (out), 4 FADJ, 5 EN (in), 6 SYNC (in), 7 VIN (in), 8 PGOOD (out), 9 GND (power), 10 VDD (power), 11 LG (out), 12 SW (in), 13 CBOOT (in), 14 HG (out), 15 CS- (in), 16 CS+ (in), 17 EP (power)

## LM27951SDX
designator U?
White LED Adaptive 1.5X/1X Switched Capacitor Current Driver, 14-pin LLP; PartNumber: LM27951SDX; Manufacturer: National Semiconductor; PowerWise: Y; CompType: Switcher; Published: 1-Mar-2010; DatasheetVersion: Nov-2005; PackageVersion: revA, Jun-2003; PackageReference: SDA14A; Publisher: Altium Limited; PackageDescription: LLP, Plastic, Dual, 4 x 3 x 0.8mm Body, 14 Lead, 0.5mm Pitch, No Pullback; RoHS: N; PinCount: 14; ComponentLink1Description: LM27951 Datasheet; ComponentLink1URL: http://www.national.com/ds/LM/LM27951.pdf; ComponentLink2Description: LM27951 Web Page; ComponentLink2URL: http://www.national.com/pf/LM/LM27951.html; ComponentLink3Description: SDA14A Package Page; ComponentLink3URL: http://www.national.com/packaging/folders/sda14a.html
footprint SDA14A (SON, 14-Leads, Body 4x3mm, Pitch 0.5mm, NSC Recommended)
pins: 1 C2+ (in), 2 VOUT (power), 3 C1+ (in), 4 D4 (oc), 5 D3 (oc), 6 D2 (oc), 7 D1 (oc), 8 ISET (in), 9 EN (in), 10 PWM (in), 11 VIN (power), 12 C2- (in), 13 GND (power), 14 C1- (in), 15 DAP (power)

## LM27951SDX/NOPB
designator U?
White LED Adaptive 1.5X/1X Switched Capacitor Current Driver, 14-pin LLP, Pb-Free; PartNumber: LM27951SDX/NOPB; Manufacturer: National Semiconductor; PowerWise: Y; CompType: Switcher; Published: 1-Mar-2010; DatasheetVersion: Nov-2005; PackageVersion: revA, Jun-2003; PackageReference: SDA14A; Publisher: Altium Limited; PackageDescription: LLP, Plastic, Dual, 4 x 3 x 0.8mm Body, 14 Lead, 0.5mm Pitch, No Pullback; Supplier 1: Digi-Key; Supplier Part Number 1: LM27951SDX-ND; RoHS: Y; PinCount: 14; ComponentLink1Description: LM27951 Datasheet; ComponentLink1URL: http://www.national.com/ds/LM/LM27951.pdf; ComponentLink2Description: LM27951 Web Page; ComponentLink2URL: http://www.national.com/pf/LM/LM27951.html; ComponentLink3Description: SDA14A Package Page; ComponentLink3URL: http://www.national.com/packaging/folders/sda14a.html
footprint SDA14A (SON, 14-Leads, Body 4x3mm, Pitch 0.5mm, NSC Recommended)
pins: 1 C2+ (in), 2 VOUT (power), 3 C1+ (in), 4 D4 (oc), 5 D3 (oc), 6 D2 (oc), 7 D1 (oc), 8 ISET (in), 9 EN (in), 10 PWM (in), 11 VIN (power), 12 C2- (in), 13 GND (power), 14 C1- (in), 15 DAP (power)

## LM27952SDX
designator U?
White LED Adaptive 1.5X/1X Switched Capacitor Current Driver, 14-pin LLP; PartNumber: LM27952SDX; Manufacturer: National Semiconductor; PowerWise: Y; CompType: Switcher; Published: 1-Mar-2010; DatasheetVersion: Aug-2005; PackageVersion: revA, Jun-2003; PackageReference: SDA14A; Publisher: Altium Limited; PackageDescription: LLP, Plastic, Dual, 4 x 3 x 0.8mm Body, 14 Lead, 0.5mm Pitch, No Pullback; RoHS: N; PinCount: 14; ComponentLink1Description: LM27952 Datasheet; ComponentLink1URL: http://www.national.com/ds/LM/LM27952.pdf; ComponentLink2Description: LM27952 Web Page; ComponentLink2URL: http://www.national.com/pf/LM/LM27952.html; ComponentLink3Description: SDA14A Package Page; ComponentLink3URL: http://www.national.com/packaging/folders/sda14a.html
footprint SDA14A (SON, 14-Leads, Body 4x3mm, Pitch 0.5mm, NSC Recommended)
pins: 1 C2+ (in), 2 VOUT (power), 3 C1+ (in), 4 D4 (oc), 5 D3 (oc), 6 D2 (oc), 7 D1 (oc), 8 ISET (in), 9 EN (in), 10 PWM (in), 11 VIN (power), 12 C2- (in), 13 GND (power), 14 C1- (in), 15 DAP (power)

## LM27952SDX/NOPB
designator U?
White LED Adaptive 1.5X/1X Switched Capacitor Current Driver, 14-pin LLP, Pb-Free; PartNumber: LM27952SDX/NOPB; Manufacturer: National Semiconductor; PowerWise: Y; CompType: Switcher; Published: 1-Mar-2010; DatasheetVersion: Aug-2005; PackageVersion: revA, Jun-2003; PackageReference: SDA14A; Publisher: Altium Limited; PackageDescription: LLP, Plastic, Dual, 4 x 3 x 0.8mm Body, 14 Lead, 0.5mm Pitch, No Pullback; Supplier 1: Digi-Key; Supplier Part Number 1: LM27952SDX-ND; RoHS: Y; PinCount: 14; ComponentLink1Description: LM27952 Datasheet; ComponentLink1URL: http://www.national.com/ds/LM/LM27952.pdf; ComponentLink2Description: LM27952 Web Page; ComponentLink2URL: http://www.national.com/pf/LM/LM27952.html; ComponentLink3Description: SDA14A Package Page; ComponentLink3URL: http://www.national.com/packaging/folders/sda14a.html
footprint SDA14A (SON, 14-Leads, Body 4x3mm, Pitch 0.5mm, NSC Recommended)
pins: 1 C2+ (in), 2 VOUT (power), 3 C1+ (in), 4 D4 (oc), 5 D3 (oc), 6 D2 (oc), 7 D1 (oc), 8 ISET (in), 9 EN (in), 10 PWM (in), 11 VIN (power), 12 C2- (in), 13 GND (power), 14 C1- (in), 15 DAP (power)

## LM27964SQ-C/NOPB
designator U?
White LED Driver System with I2C Compatible Brightness Control, 24-pin LLP, Pb-Free; PartNumber: LM27964SQ-C/NOPB; Manufacturer: National Semiconductor; PackageTopMarking: NS*UZXYTT*27964-C; PowerWise: N; CompType: Switcher; Published: 1-Mar-2010; DatasheetVersion: Aug-2007; PackageVersion: revB, Aug-2003; PackageReference: SQA24A; Publisher: Altium Limited; PackageDescription: LLP, Plastic, Quad, 4 x 4 x 0.8mm Body, 24 Lead, 0.5mm Pitch, No Pullback; Supplier 1: Digi-Key; Supplier Part Number 1: LM27964SQ-C-TR-ND; Supplier 2: Digi-Key; Supplier Part Number 2: LM27964SQ-C-CT-ND; Supplier 3: Digi-Key; Supplier Part Number 3: LM27964SQ-C-DKR-ND; RoHS: Y; PinCount: 24; Code_JEDEC: MO-220-WGGD-6; ComponentLink1Description: LM27964 Datasheet; ComponentLink1URL: http://www.national.com/ds/LM/LM27964.pdf; ComponentLink2Description: LM27964 Web Page; ComponentLink2URL: http://www.national.com/pf/LM/LM27964.html; ComponentLink3Description: SQA24A Package Page; ComponentLink3URL: http://www.national.com/packaging/folders/sqa24a.html
footprint SQA24A (QFN, 24-Leads, Body 4x4mm, Pitch 0.5mm, NSC Recommended)
pins: 1 SCL (in), 2 SDIO (io), 3 ISETB (in), 4 D1B (oc), 5 D2B (oc), 6 DKEY (oc), 7 VIO (in), 8 NC, 9 GND (power), 10 GND (power), 11 NC, 12 ISETK (in), 13 D4A (oc), 14 D3A (oc), 15 D2A (oc), 16 D1A (oc), 17 ISETA (in), 18 GND (power), 19 C1 (in), 20 C2 (in), 21 C2 (in), 22 C1 (in), 23 POUT (power), 24 VIN (power), 25 DAP (power)

## LM27964SQ-I
designator U?
White LED Driver System with I2C Compatible Brightness Control, 24-pin LLP; PartNumber: LM27964SQ-I; Manufacturer: National Semiconductor; PackageTopMarking: NS*UZXYTT*L27964S; PowerWise: N; CompType: Switcher; Published: 4-Dec-2008; DatasheetVersion: Aug-2007; PackageVersion: revB, Aug-2003; PackageReference: SQA24A; Publisher: Altium Limited; PackageDescription: LLP, Plastic, Quad, 4 x 4 x 0.8mm Body, 24 Lead, 0.5mm Pitch, No Pullback; Supplier 1: Digi-Key; Supplier Part Number 1: LM27964SQ-ITR-ND; Supplier 2: Digi-Key; Supplier Part Number 2: LM27964SQ-ICT-ND; Supplier 3: Digi-Key; Supplier Part Number 3: LM27964SQ-IDKR-ND; Supplier 4: Farnell; Supplier Part Number 4: 1312697; RoHS: N; PinCount: 24; Code_JEDEC: MO-220-WGGD-6; ComponentLink1Description: LM27964 Datasheet; ComponentLink1URL: http://www.national.com/ds/LM/LM27964.pdf; ComponentLink2Description: LM27964 Web Page; ComponentLink2URL: http://www.national.com/pf/LM/LM27964.html; ComponentLink3Description: SQA24A Package Page; ComponentLink3URL: http://www.national.com/packaging/folders/sqa24a.html
footprint SQA24A (QFN, 24-Leads, Body 4x4mm, Pitch 0.5mm, NSC Recommended)
pins: 1 SCL (in), 2 SDIO (io), 3 ISETB (in), 4 D1B (oc), 5 D2B (oc), 6 DKEY (oc), 7 VIO (in), 8 NC, 9 GND (power), 10 GND (power), 11 NC, 12 ISETK (in), 13 D4A (oc), 14 D3A (oc), 15 D2A (oc), 16 D1A (oc), 17 ISETA (in), 18 GND (power), 19 C1 (in), 20 C2 (in), 21 C2 (in), 22 C1 (in), 23 POUT (power), 24 VIN (power), 25 DAP (power)

## LM27964SQ-I/NOPB
designator U?
White LED Driver System with I2C Compatible Brightness Control, 24-pin LLP, Pb-Free; PartNumber: LM27964SQ-I/NOPB; Manufacturer: National Semiconductor; PackageTopMarking: NS*UZXYTT*L27964S; PowerWise: N; CompType: Switcher; Published: 1-Mar-2010; DatasheetVersion: Aug-2007; PackageVersion: revB, Aug-2003; PackageReference: SQA24A; Publisher: Altium Limited; PackageDescription: LLP, Plastic, Quad, 4 x 4 x 0.8mm Body, 24 Lead, 0.5mm Pitch, No Pullback; RoHS: Y; PinCount: 24; Code_JEDEC: MO-220-WGGD-6; ComponentLink1Description: LM27964 Datasheet; ComponentLink1URL: http://www.national.com/ds/LM/LM27964.pdf; ComponentLink2Description: LM27964 Web Page; ComponentLink2URL: http://www.national.com/pf/LM/LM27964.html; ComponentLink3Description: SQA24A Package Page; ComponentLink3URL: http://www.national.com/packaging/folders/sqa24a.html
footprint SQA24A (QFN, 24-Leads, Body 4x4mm, Pitch 0.5mm, NSC Recommended)
pins: 1 SCL (in), 2 SDIO (io), 3 ISETB (in), 4 D1B (oc), 5 D2B (oc), 6 DKEY (oc), 7 VIO (in), 8 NC, 9 GND (power), 10 GND (power), 11 NC, 12 ISETK (in), 13 D4A (oc), 14 D3A (oc), 15 D2A (oc), 16 D1A (oc), 17 ISETA (in), 18 GND (power), 19 C1 (in), 20 C2 (in), 21 C2 (in), 22 C1 (in), 23 POUT (power), 24 VIN (power), 25 DAP (power)

## LM27964SQX-C/NOPB
designator U?
White LED Driver System with I2C Compatible Brightness Control, 24-pin LLP, Pb-Free; PartNumber: LM27964SQX-C/NOPB; Manufacturer: National Semiconductor; PackageTopMarking: NS*UZXYTT*27964-C; PowerWise: N; CompType: Switcher; Published: 1-Mar-2010; DatasheetVersion: Aug-2007; PackageVersion: revB, Aug-2003; PackageReference: SQA24A; Publisher: Altium Limited; PackageDescription: LLP, Plastic, Quad, 4 x 4 x 0.8mm Body, 24 Lead, 0.5mm Pitch, No Pullback; Supplier 1: Digi-Key; Supplier Part Number 1: LM27964SQX-C-ND; RoHS: Y; PinCount: 24; Code_JEDEC: MO-220-WGGD-6; ComponentLink1Description: LM27964 Datasheet; ComponentLink1URL: http://www.national.com/ds/LM/LM27964.pdf; ComponentLink2Description: LM27964 Web Page; ComponentLink2URL: http://www.national.com/pf/LM/LM27964.html; ComponentLink3Description: SQA24A Package Page; ComponentLink3URL: http://www.national.com/packaging/folders/sqa24a.html
footprint SQA24A (QFN, 24-Leads, Body 4x4mm, Pitch 0.5mm, NSC Recommended)
pins: 1 SCL (in), 2 SDIO (io), 3 ISETB (in), 4 D1B (oc), 5 D2B (oc), 6 DKEY (oc), 7 VIO (in), 8 NC, 9 GND (power), 10 GND (power), 11 NC, 12 ISETK (in), 13 D4A (oc), 14 D3A (oc), 15 D2A (oc), 16 D1A (oc), 17 ISETA (in), 18 GND (power), 19 C1 (in), 20 C2 (in), 21 C2 (in), 22 C1 (in), 23 POUT (power), 24 VIN (power), 25 DAP (power)

## LM27964SQX-I
designator U?
White LED Driver System with I2C Compatible Brightness Control, 24-pin LLP; PartNumber: LM27964SQX-I; Manufacturer: National Semiconductor; PackageTopMarking: NS*UZXYTT*L27964S; PowerWise: N; CompType: Switcher; Published: 1-Mar-2010; DatasheetVersion: Aug-2007; PackageVersion: revB, Aug-2003; PackageReference: SQA24A; Publisher: Altium Limited; PackageDescription: LLP, Plastic, Quad, 4 x 4 x 0.8mm Body, 24 Lead, 0.5mm Pitch, No Pullback; RoHS: N; PinCount: 24; Code_JEDEC: MO-220-WGGD-6; ComponentLink1Description: LM27964 Datasheet; ComponentLink1URL: http://www.national.com/ds/LM/LM27964.pdf; ComponentLink2Description: LM27964 Web Page; ComponentLink2URL: http://www.national.com/pf/LM/LM27964.html; ComponentLink3Description: SQA24A Package Page; ComponentLink3URL: http://www.national.com/packaging/folders/sqa24a.html
footprint SQA24A (QFN, 24-Leads, Body 4x4mm, Pitch 0.5mm, NSC Recommended)
pins: 1 SCL (in), 2 SDIO (io), 3 ISETB (in), 4 D1B (oc), 5 D2B (oc), 6 DKEY (oc), 7 VIO (in), 8 NC, 9 GND (power), 10 GND (power), 11 NC, 12 ISETK (in), 13 D4A (oc), 14 D3A (oc), 15 D2A (oc), 16 D1A (oc), 17 ISETA (in), 18 GND (power), 19 C1 (in), 20 C2 (in), 21 C2 (in), 22 C1 (in), 23 POUT (power), 24 VIN (power), 25 DAP (power)

## LM27964SQX-I/NOPB
designator U?
White LED Driver System with I2C Compatible Brightness Control, 24-pin LLP, Pb-Free; PartNumber: LM27964SQX-I/NOPB; Manufacturer: National Semiconductor; PackageTopMarking: NS*UZXYTT*L27964S; PowerWise: N; CompType: Switcher; Published: 1-Mar-2010; DatasheetVersion: Aug-2007; PackageVersion: revB, Aug-2003; PackageReference: SQA24A; Publisher: Altium Limited; PackageDescription: LLP, Plastic, Quad, 4 x 4 x 0.8mm Body, 24 Lead, 0.5mm Pitch, No Pullback; Supplier 1: Digi-Key; Supplier Part Number 1: LM27964SQX-I-ND; RoHS: Y; PinCount: 24; Code_JEDEC: MO-220-WGGD-6; ComponentLink1Description: LM27964 Datasheet; ComponentLink1URL: http://www.national.com/ds/LM/LM27964.pdf; ComponentLink2Description: LM27964 Web Page; ComponentLink2URL: http://www.national.com/pf/LM/LM27964.html; ComponentLink3Description: SQA24A Package Page; ComponentLink3URL: http://www.national.com/packaging/folders/sqa24a.html
footprint SQA24A (QFN, 24-Leads, Body 4x4mm, Pitch 0.5mm, NSC Recommended)
pins: 1 SCL (in), 2 SDIO (io), 3 ISETB (in), 4 D1B (oc), 5 D2B (oc), 6 DKEY (oc), 7 VIO (in), 8 NC, 9 GND (power), 10 GND (power), 11 NC, 12 ISETK (in), 13 D4A (oc), 14 D3A (oc), 15 D2A (oc), 16 D1A (oc), 17 ISETA (in), 18 GND (power), 19 C1 (in), 20 C2 (in), 21 C2 (in), 22 C1 (in), 23 POUT (power), 24 VIN (power), 25 DAP (power)

## LM27965SQ
designator U?
Dual Display White LED Driver with I2C Compatible Brightness Control, 24-pin LLP; PartNumber: LM27965SQ; Manufacturer: National Semiconductor; PackageTopMarking: NS*UZXYTT*L27965S; PowerWise: Y; CompType: Switcher; Published: 4-Dec-2008; DatasheetVersion: Oct-2007; PackageVersion: revB, Aug-2003; PackageReference: SQA24A; Publisher: Altium Limited; PackageDescription: LLP, Plastic, Quad, 4 x 4 x 0.8mm Body, 24 Lead, 0.5mm Pitch, No Pullback; RoHS: N; PinCount: 24; Code_JEDEC: MO-220-WGGD-6; ComponentLink1Description: LM27965 Datasheet; ComponentLink1URL: http://www.national.com/ds/LM/LM27965.pdf; ComponentLink2Description: LM27965 Web Page; ComponentLink2URL: http://www.national.com/pf/LM/LM27965.html; ComponentLink3Description: SQA24A Package Page; ComponentLink3URL: http://www.national.com/packaging/folders/sqa24a.html
footprint SQA24A (QFN, 24-Leads, Body 4x4mm, Pitch 0.5mm, NSC Recommended)
pins: 1 SCL (in), 2 SDIO (io), 3 D1C (oc), 4 D1B (oc), 5 D2B (oc), 6 D3B (oc), 7 VIO (in), 8 NC, 9 GND (power), 10 ~{RESET} (in), 11 NC, 12 D5A (oc), 13 D4A (oc), 14 D3A (oc), 15 D2A (oc), 16 D1A (oc), 17 ISET (in), 18 GND (power), 19 C1 (in), 20 C2 (in), 21 C2 (in), 22 C1 (in), 23 POUT (power), 24 VIN (power), 25 DAP (power)

## LM27965SQ-M/NOPB
designator U?
Dual Display White LED Driver with I2C Compatible Brightness Control, 24-pin LLP, Pb-Free; PartNumber: LM27965SQ-M/NOPB; Manufacturer: National Semiconductor; PackageTopMarking: NS*UZXYTT*27965M; PowerWise: N; CompType: Switcher; Published: 1-Mar-2010; DatasheetVersion: Oct-2007; PackageVersion: revB, Aug-2003; PackageReference: SQA24A; Publisher: Altium Limited; PackageDescription: LLP, Plastic, Quad, 4 x 4 x 0.8mm Body, 24 Lead, 0.5mm Pitch, No Pullback; Supplier 1: Digi-Key; Supplier Part Number 1: LM27965SQ-MTR-ND; Supplier 2: Digi-Key; Supplier Part Number 2: LM27965SQ-MCT-ND; Supplier 3: Digi-Key; Supplier Part Number 3: LM27965SQ-MDKR-ND; RoHS: Y; PinCount: 24; Code_JEDEC: MO-220-WGGD-6; ComponentLink1Description: LM27965 Datasheet; ComponentLink1URL: http://www.national.com/ds/LM/LM27965.pdf; ComponentLink2Description: LM27965 Web Page; ComponentLink2URL: http://www.national.com/pf/LM/LM27965.html; ComponentLink3Description: SQA24A Package Page; ComponentLink3URL: http://www.national.com/packaging/folders/sqa24a.html
footprint SQA24A (QFN, 24-Leads, Body 4x4mm, Pitch 0.5mm, NSC Recommended)
pins: 1 SCL (in), 2 SDIO (io), 3 D1C (oc), 4 D1B (oc), 5 D2B (oc), 6 D3B (oc), 7 VIO (in), 8 NC, 9 GND (power), 10 ~{RESET} (in), 11 NC, 12 D5A (oc), 13 D4A (oc), 14 D3A (oc), 15 D2A (oc), 16 D1A (oc), 17 ISET (in), 18 GND (power), 19 C1 (in), 20 C2 (in), 21 C2 (in), 22 C1 (in), 23 POUT (power), 24 VIN (power), 25 DAP (power)

## LM27965SQ/NOPB
designator U?
Dual Display White LED Driver with I2C Compatible Brightness Control, 24-pin LLP, Pb-Free; PartNumber: LM27965SQ/NOPB; Manufacturer: National Semiconductor; PackageTopMarking: NS*UZXYTT*L27965S; PowerWise: Y; CompType: Switcher; Published: 1-Mar-2010; DatasheetVersion: Oct-2007; PackageVersion: revB, Aug-2003; PackageReference: SQA24A; Publisher: Altium Limited; PackageDescription: LLP, Plastic, Quad, 4 x 4 x 0.8mm Body, 24 Lead, 0.5mm Pitch, No Pullback; Supplier 1: Digi-Key; Supplier Part Number 1: LM27965SQTR-ND; Supplier 2: Digi-Key; Supplier Part Number 2: LM27965SQCT-ND; RoHS: Y; PinCount: 24; Code_JEDEC: MO-220-WGGD-6; ComponentLink1Description: LM27965 Datasheet; ComponentLink1URL: http://www.national.com/ds/LM/LM27965.pdf; ComponentLink2Description: LM27965 Web Page; ComponentLink2URL: http://www.national.com/pf/LM/LM27965.html; ComponentLink3Description: SQA24A Package Page; ComponentLink3URL: http://www.national.com/packaging/folders/sqa24a.html
footprint SQA24A (QFN, 24-Leads, Body 4x4mm, Pitch 0.5mm, NSC Recommended)
pins: 1 SCL (in), 2 SDIO (io), 3 D1C (oc), 4 D1B (oc), 5 D2B (oc), 6 D3B (oc), 7 VIO (in), 8 NC, 9 GND (power), 10 ~{RESET} (in), 11 NC, 12 D5A (oc), 13 D4A (oc), 14 D3A (oc), 15 D2A (oc), 16 D1A (oc), 17 ISET (in), 18 GND (power), 19 C1 (in), 20 C2 (in), 21 C2 (in), 22 C1 (in), 23 POUT (power), 24 VIN (power), 25 DAP (power)